# EAGLE library part SKY13380-350LF (library SKY13380-350LF)
RF Switch ICs 20MHz-3.0GHz SP4T IL .45dB @ 2.0GHz Source: Datasheet <https://componentsearchengine.com/Datasheets/1/SKY13380-350LF.pdf>
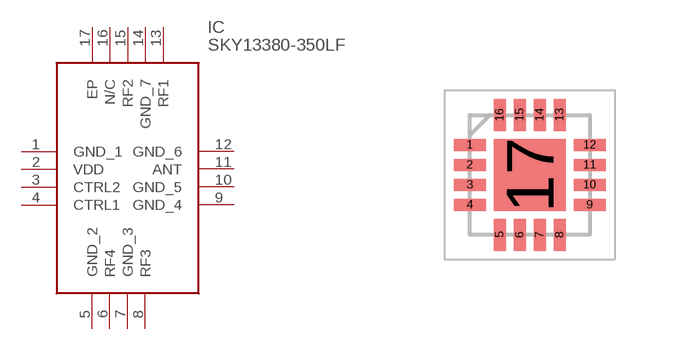
[diagram p0: symbol with the pads of QFN50P300X300X80-17N; footprint QFN50P300X300X80-17N]

Designator prefix IC

## SKY13380-350LF (Description: RF Switch ICs 20MHz-3.0GHz SP4T IL .45dB @ 2.0GHz; Height: 0.8mm; Manufacturer_Name: Skyworks; Manufacturer_Part_Number: SKY13380-350LF; Mouser_Part_Number: 873-SKY13380-350LF; Mouser_Price-Stock: https://www.mouser.co.uk/ProductDetail/Skyworks-Solutions-Inc/SKY13380-350LF?qs=WMHGlxXAKT%2FCWqu6Atw2nA%3D%3D)  [QFN50P300X300X80-17N]
1  GND_1
2  VDD
3  CTRL2
4  CTRL1
5  GND_2
6  RF4
7  GND_3
8  RF3
9  GND_4
10  GND_5
11  ANT
12  GND_6
13  RF1
14  GND_7
15  RF2
16  N/C  nc
17  EP

## Footprint QFN50P300X300X80-17N (pad centres in mm)
SKY13380-350LF
smd 0.8 x 0.3: 1 -1.5,0.75; 2 -1.5,0.25; 3 -1.5,-0.25; 4 -1.5,-0.75; 9 1.5,-0.75; 10 1.5,-0.25; 11 1.5,0.25; 12 1.5,0.75
smd 0.3 x 0.8: 5 -0.75,-1.5; 6 -0.25,-1.5; 7 0.25,-1.5; 8 0.75,-1.5; 13 0.75,1.5; 14 0.25,1.5; 15 -0.25,1.5; 16 -0.75,1.5
smd 1.8 x 1.8: 17 0,0